# EAGLE library part DCDC-MINI (library ovms_lilygo)
DC/DC Step-Down Converter 0.8-20V
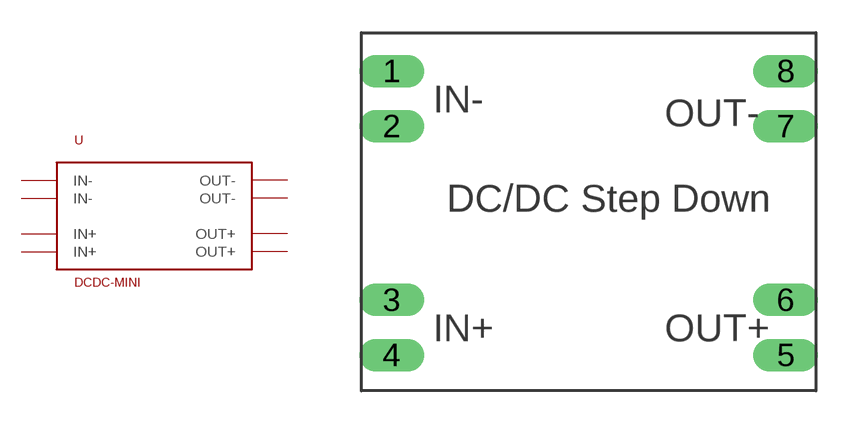
[diagram p1: symbol with the pads of DCDC-MINI; footprint DCDC-MINI]

Designator prefix -

## DCDC-MINI  [DCDC-MINI]
1  IN-  pwr
2  IN-  pwr
3  IN+  pwr
4  IN+  pwr
5  OUT+  pwr
6  OUT+  pwr
7  OUT-  pwr
8  OUT-  pwr

## Footprint DCDC-MINI (pad centres in mm)
DC/DC Step-Down converter 0.8-20V
drill 1 long: 1 -8.763,3.302; 2 -8.763,0.762; 3 -8.763,-7.239; 4 -8.763,-9.779; 5 9.398,-9.779; 6 9.398,-7.239; 7 9.398,0.762; 8 9.398,3.302